# Altium footprint library Transformer_EE85A.PcbLib: 1 footprints
Each footprint in its own frame and in the unit in brackets; x right, y up, seen from the top. Pads: shape width x height; smd on the part's side, far side on the other; paste and mask are expansions set on the pad; w line width, h text height; cw(c..) or ccw(c..) is an arc to the next point about the centre after c.
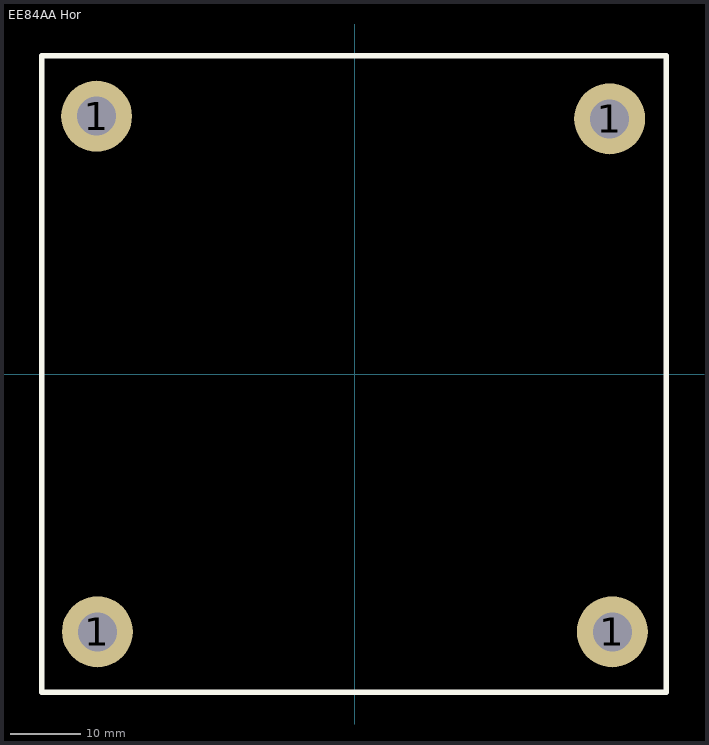
[diagram p0: the footprint, top view; thin cyan lines are the x and y axes]

## EE84AA Hor [mm]
pads (4):
  round 10 hole 5.5: 1(-36.449,36.449) 1(-36.322,-36.322) 1(35.941,36.068) 1(36.322,-36.322)
Top Overlay:
  lines w0.8: -44.196,-44.831 43.942,-44.831 43.942,44.958 -44.196,44.958 -44.196,-44.831
3D body "EE85AA HOR.STEP": height 66.25, standoff -8.25, extent -43.925,-44.7 43.925,44.7